# EAGLE library part HEX-BUS_DUAL (library ti-cc40-74-95)
TI HexBus Connector
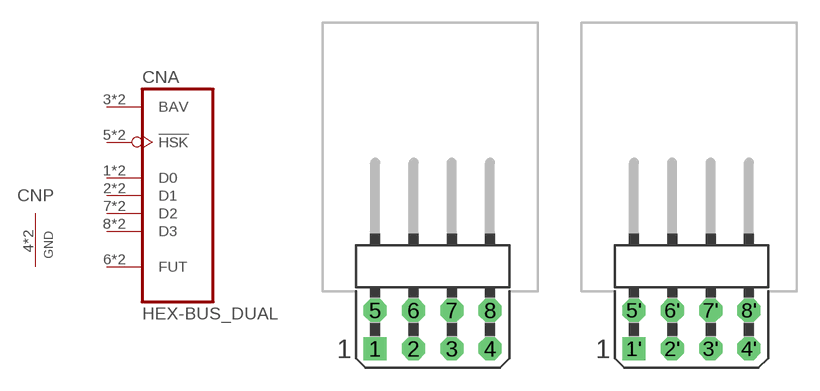
[diagram p2: symbol with the pads of HEX-BUS_DUAL; footprint HEX-BUS_DUAL]

Designator prefix CN; gates A=HEX-BUS P=GND

## HEX-BUS_DUAL  [HEX-BUS_DUAL]
1  A:D0
1'  A:D0
2  A:D1
2'  A:D1
3  A:BAV
3'  A:BAV
4  P:GND  pwr
4'  P:GND  pwr
5  A:!HSK
5'  A:!HSK
6  A:FUT  pas
6'  A:FUT  pas
7  A:D2
7'  A:D2
8  A:D3
8'  A:D3

## Footprint HEX-BUS_DUAL (pad centres in mm)
TI CC40 HEX-BUS
drill 1.016 square: 1 -12.7,-1.27; 1' 4.445,-1.27
drill 1.016 octagon: 2 -10.16,-1.27; 2' 6.985,-1.27; 3 -7.62,-1.27; 3' 9.525,-1.27; 4 -5.08,-1.27; 4' 12.065,-1.27; 5 -12.7,1.27; 5' 4.445,1.27; 6 -10.16,1.27; 6' 6.985,1.27; 7 -7.62,1.27; 7' 9.525,1.27; 8 -5.08,1.27; 8' 12.065,1.27